# Altium footprint library CONN-DG126-3-5.0mm.PcbLib: 1 footprints
Each footprint in its own frame and in the unit in brackets; x right, y up, seen from the top. Pads: shape width x height; smd on the part's side, far side on the other; paste and mask are expansions set on the pad; w line width, h text height; cw(c..) or ccw(c..) is an arc to the next point about the centre after c.
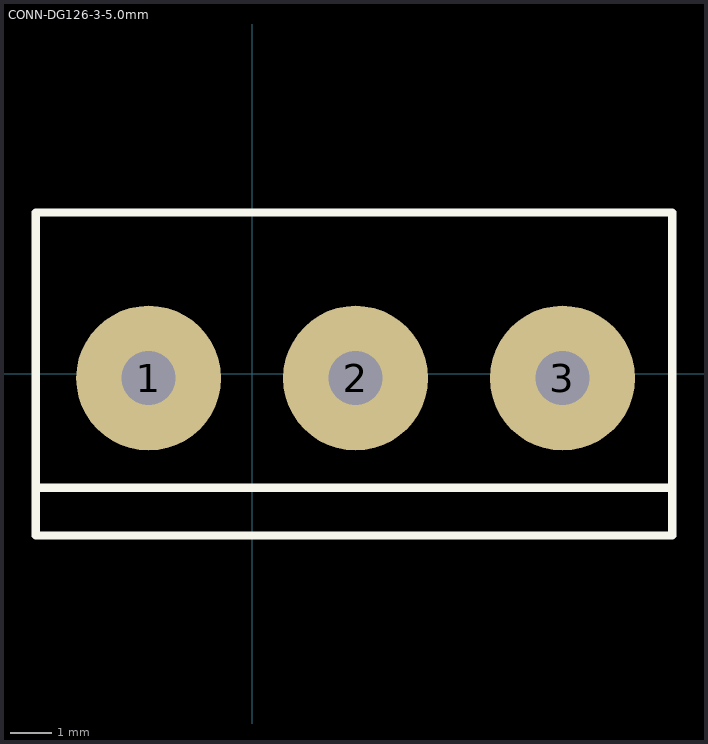
[diagram p0: the footprint, top view; thin cyan lines are the x and y axes]

## CONN-DG126-3-5.0mm [mm]
pads (3):
  round 3.5 hole 1.3: 1(-2.5,-0.1) 2(2.5,-0.1) 3(7.5,-0.1)
Top Overlay:
  lines w0.2: -5.225,-2.75 10.15,-2.75 ; -5.225,-3.9 10.15,-3.9 10.15,3.9 -5.225,3.9 -5.225,-3.9
Top Assembly:
  lines w0.1: -5.225,-2.75 10.125,-2.75 ; -5.225,-3.875 10.125,-3.875 10.125,3.875 -5.225,3.875 -5.225,-3.875
  text "'.Designator'" at -0.925,-0.325 h0.7
3D body "User Library-DG126-5_0-03P.STEP": height 10.25, standoff -2.14, extent -5.125,-3.9 10.125,3.9